# Altium schematic symbol library E2S_E2S_031_V1_Review_done.SchLib: 1 symbol
Pins are listed as number, name and electrical type; pins without a type are passive.

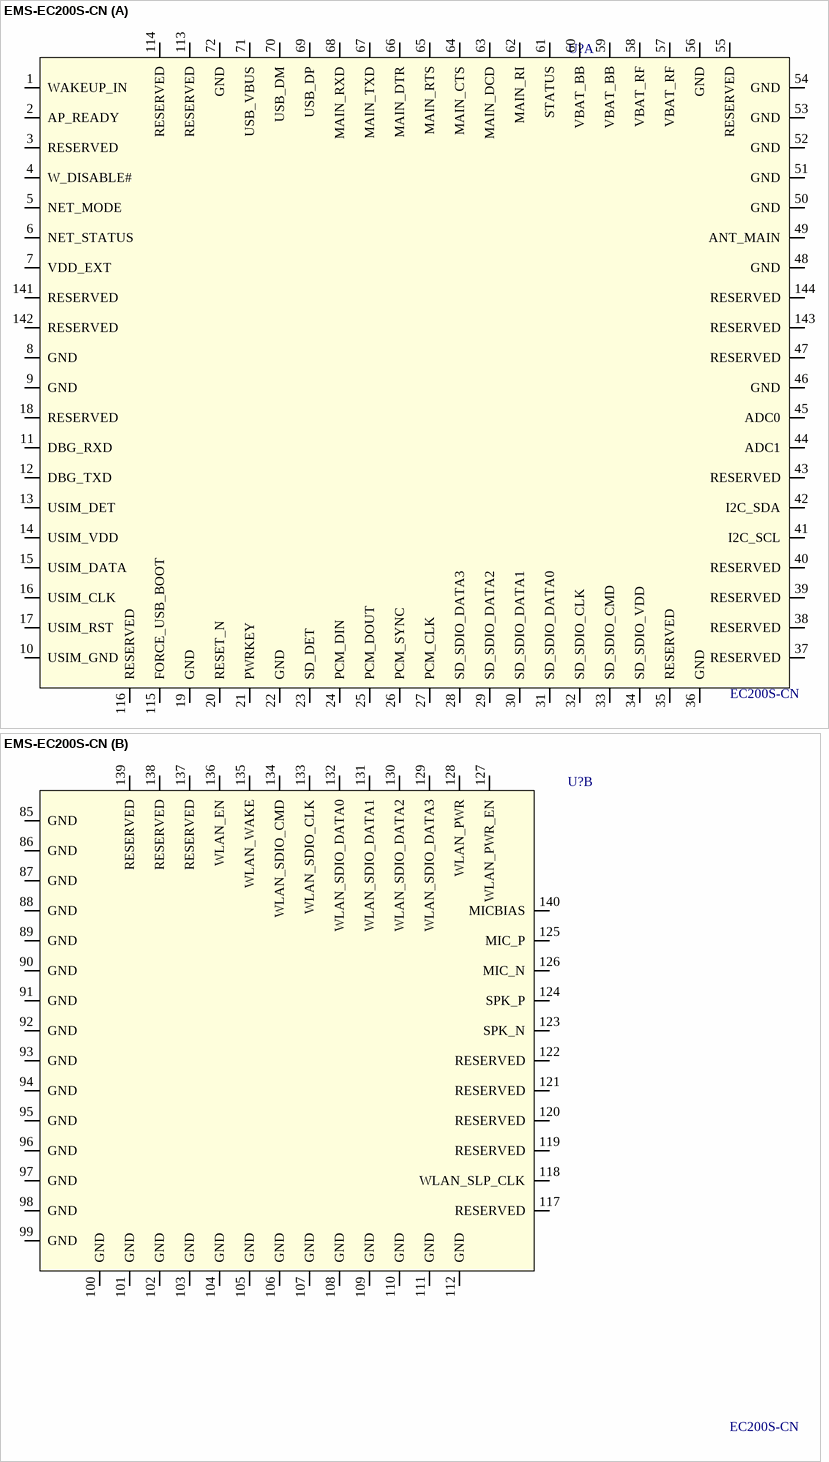
[diagram p0: symbol EMS-EC200S-CN]

## EMS-EC200S-CN
designator U?, comment value EC200S-CN  (hidden comment: Quectel EC200S  IOT/M2M optimized LTE CAT 1 module)
Internal Part Number: EMS-EC200S-CN; Vendor Part Number: custom; Component Height (mm): 2.6mm; 3rd Auxiliary Field: RoHS Compliant; 1st Auxiliary Field: 3.4V ~ 4.5V; Temp Co: -40°C to +85°C; Part Type: Quectel EC200S  IOT/M2M optimized LTE CAT 1 module; Manufacturer: Quectel; 2nd Auxiliary Field: *; Manufacturer Part Number: EC200S-CN; 4th Auxiliary Field: *; Vendor Name: Quectel
footprint MOD_EC200S (Footprint not found)
part A pins: 1 WAKEUP_IN, 2 AP_READY, 3 RESERVED, 4 W_DISABLE#, 5 NET_MODE, 6 NET_STATUS, 7 VDD_EXT, 8 GND, 9 GND, 10 USIM_GND, 11 DBG_RXD, 12 DBG_TXD, 13 USIM_DET, 14 USIM_VDD, 15 USIM_DATA, 16 USIM_CLK, 17 USIM_RST, 18 RESERVED, 19 GND, 20 RESET_N, 21 PWRKEY, 22 GND, 23 SD_DET, 24 PCM_DIN, 25 PCM_DOUT, 26 PCM_SYNC, 27 PCM_CLK, 28 SD_SDIO_DATA3, 29 SD_SDIO_DATA2, 30 SD_SDIO_DATA1, 31 SD_SDIO_DATA0, 32 SD_SDIO_CLK, 33 SD_SDIO_CMD, 34 SD_SDIO_VDD, 35 RESERVED, 36 GND, 37 RESERVED, 38 RESERVED, 39 RESERVED, 40 RESERVED, 41 I2C_SCL, 42 I2C_SDA, 43 RESERVED, 44 ADC1, 45 ADC0, 46 GND, 47 RESERVED, 48 GND, 49 ANT_MAIN, 50 GND, 51 GND, 52 GND, 53 GND, 54 GND, 55 RESERVED, 56 GND, 57 VBAT_RF, 58 VBAT_RF, 59 VBAT_BB, 60 VBAT_BB, 61 STATUS, 62 MAIN_RI, 63 MAIN_DCD, 64 MAIN_CTS, 65 MAIN_RTS, 66 MAIN_DTR, 67 MAIN_TXD, 68 MAIN_RXD, 69 USB_DP, 70 USB_DM, 71 USB_VBUS, 72 GND, 113 RESERVED, 114 RESERVED, 115 FORCE_USB_BOOT, 116 RESERVED, 141 RESERVED, 142 RESERVED, 143 RESERVED, 144 RESERVED
part B pins: 85 GND, 86 GND, 87 GND, 88 GND, 89 GND, 90 GND, 91 GND, 92 GND, 93 GND, 94 GND, 95 GND, 96 GND, 97 GND, 98 GND, 99 GND, 100 GND, 101 GND, 102 GND, 103 GND, 104 GND, 105 GND, 106 GND, 107 GND, 108 GND, 109 GND, 110 GND, 111 GND, 112 GND, 117 RESERVED, 118 WLAN_SLP_CLK, 119 RESERVED, 120 RESERVED, 121 RESERVED, 122 RESERVED, 123 SPK_N, 124 SPK_P, 125 MIC_P, 126 MIC_N, 127 WLAN_PWR_EN, 128 WLAN_PWR, 129 WLAN_SDIO_DATA3, 130 WLAN_SDIO_DATA2, 131 WLAN_SDIO_DATA1, 132 WLAN_SDIO_DATA0, 133 WLAN_SDIO_CLK, 134 WLAN_SDIO_CMD, 135 WLAN_WAKE, 136 WLAN_EN, 137 RESERVED, 138 RESERVED, 139 RESERVED, 140 MICBIAS